# Altium footprint library DTF15-12P_Half_B.PcbLib: 1 footprints
Each footprint in its own frame and in the unit in brackets; x right, y up, seen from the top. Pads: shape width x height; smd on the part's side, far side on the other; paste and mask are expansions set on the pad; w line width, h text height; cw(c..) or ccw(c..) is an arc to the next point about the centre after c.
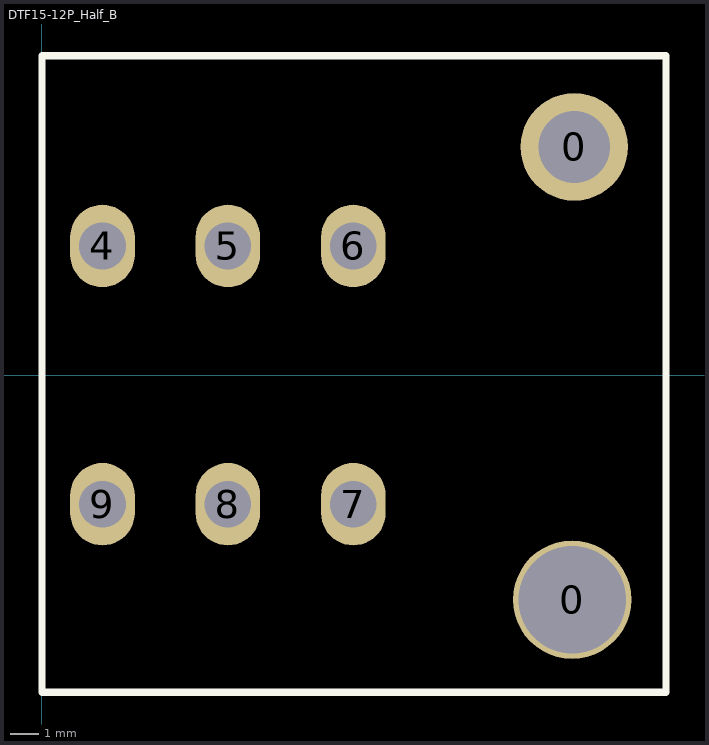
[diagram p0: the footprint, top view; thin cyan lines are the x and y axes]

## DTF15-12P_Half_B [mil]
pads (8):
  round 165 hole 150: 0(739,-313)
  round 150 hole 100: 0(742,318)
  oval 90x115 hole 65: 4(84.4,180) 5(259.2,180) 6(434,180) 7(434,-180) 8(259.2,-180) 9(84.4,-180)
Top Overlay:
  lines w10: 0,-442 870,-442 870,445 0,445 0,-442
3D body: height 182, standoff -1395, extent -867,-438 863,438